# Altium integrated library TI voltaje Regulators - DC-DC SWITCHING - STEP UP.IntLib: 1 symbol
Pins are listed as number, name and electrical type; pins without a type are passive.

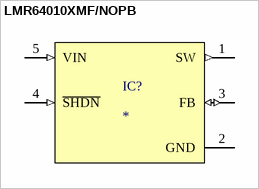
[diagram p0: symbol LMR64010XMF/NOPB]

## LMR64010XMF/NOPB
designator IC?
SIMPLE SWITCHER&reg; 2.7V to 14V, 1A Step-Up Regulator in SOT-23 Package 5-SOT-23 -40 to 125; MP: LMR64010XMF/NOPB; MF: Texas Instruments; Package: SOT-23-5 Texas Instruments; SnapEDA_Link: https://www.snapeda.com/parts/LMR64010XMF/NOPB/Texas%20Instruments/view-part/381562/?ref=snap; Value: *; Check_prices: https://www.snapeda.com/parts/LMR64010XMF/NOPB/Texas%20Instruments/view-part/381562/?ref=eda; Digi-Key_Part_Number: 296-38770-1-ND; Purchase-URL: https://pricing.snapeda.com/search/part/LMR64010XMF/NOPB/?ref=eda
footprint SOT95P280X145-5N
pins: 1 SW (out), 2 GND (power), 3 FB (io), 4 ~{SHDN} (in), 5 VIN (in)